# Altium footprint library ADXL314WBCPZ-RL.PcbLib: 3 footprints
Each footprint in its own frame and in the unit in brackets; x right, y up, seen from the top. Pads: shape width x height; smd on the part's side, far side on the other; paste and mask are expansions set on the pad; w line width, h text height; cw(c..) or ccw(c..) is an arc to the next point about the centre after c.
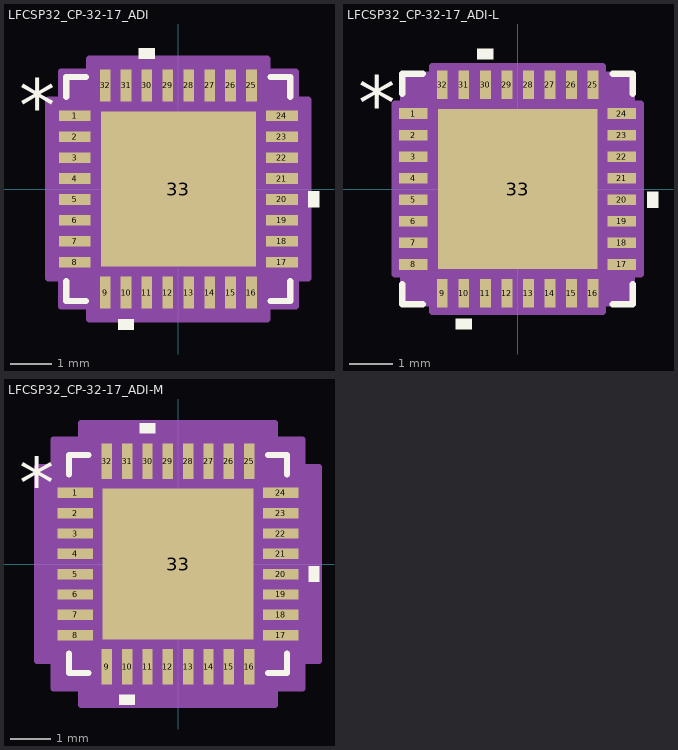
[diagram p0: the footprints below, top view; thin cyan lines are the x and y axes]

## LFCSP32_CP-32-17_ADI [mil]
pads (33):
  rect 30x10 smd paste+0 mask+0: 1(-97.5,68.9) 2(-97.5,49.21) 3(-97.5,29.53) 4(-97.5,9.84) 5(-97.5,-9.84) 6(-97.5,-29.53) 7(-97.5,-49.21) 8(-97.5,-68.9) 17(97.5,-68.9) 18(97.5,-49.21) 19(97.5,-29.53) 20(97.5,-9.84) 21(97.5,9.84) 22(97.5,29.53) 23(97.5,49.21) 24(97.5,68.9)
  rect 10x30 smd paste+0 mask+0: 9(-68.9,-97.5) 10(-49.21,-97.5) 11(-29.53,-97.5) 12(-9.84,-97.5) 13(9.84,-97.5) 14(29.53,-97.5) 15(49.21,-97.5) 16(68.9,-97.5) 25(68.9,97.5) 26(49.21,97.5) 27(29.53,97.5) 28(9.84,97.5) 29(-9.84,97.5) 30(-29.53,97.5) 31(-49.21,97.5) 32(-68.9,97.5)
  rect 146x146 smd paste-73 mask+0: 33(0,0)
Top Overlay:
  region: -41.71,-122.5 -56.71,-122.5 -56.71,-132.5 -41.71,-132.5
  region: 122.5,-2.34 132.5,-2.34 132.5,-17.34 122.5,-17.34
  region: -22.03,122.5 -37.03,122.5 -37.03,132.5 -22.03,132.5
  lines w6: -105.5,-87 -105.5,-105.5 -87,-105.5 ; -105.5,87 -105.5,105.5 -87,105.5 ; 87,-105.5 105.5,-105.5 105.5,-87 ; 87,105.5 105.5,105.5 105.5,87
  text "*" at -150,53.74 h50
  text ".Designator" at -137.5,-25 h50
Top Paste:
  region: -3.94,69.06 -69.06,69.06 -69.06,3.94 -3.94,3.94
  region: -3.94,-3.94 -69.06,-3.94 -69.06,-69.06 -3.94,-69.06
  region: 69.06,69.06 3.94,69.06 3.94,3.94 69.06,3.94
  region: 69.06,-3.94 3.94,-3.94 3.94,-69.06 69.06,-69.06
Mechanical 13:
  lines w1: -100.5,50.5 -50.5,100.5 ; -100.5,-100.5 100.5,-100.5 ; -100.5,-100.5 -100.5,100.5 ; -100.5,-100.5 -100.5,-100.5 ; -100.5,-74.9 -100.5,-62.9 ; -100.5,-74.9 -100.5,-62.9 ; -100.5,-74.9 -100.5,-74.9 ; -100.5,-62.9 -100.5,-62.9 ; -100.5,-55.21 -100.5,-43.21 ; -100.5,-55.21 -100.5,-43.21 ; -100.5,-55.21 -100.5,-55.21 ; -100.5,-43.21 -100.5,-43.21 ; -100.5,-35.53 -100.5,-23.53 ; -100.5,-35.53 -100.5,-23.53 ; -100.5,-35.53 -100.5,-35.53 ; -100.5,-23.53 -100.5,-23.53 ; -100.5,-15.84 -100.5,-3.84 ; -100.5,-15.84 -100.5,-3.84 ; -100.5,-15.84 -100.5,-15.84 ; -100.5,-3.84 -100.5,-3.84 ; -100.5,3.84 -100.5,15.84 ; -100.5,3.84 -100.5,15.84 ; -100.5,3.84 -100.5,3.84 ; -100.5,15.84 -100.5,15.84 ; -100.5,23.53 -100.5,35.53 ; -100.5,23.53 -100.5,35.53 ; -100.5,23.53 -100.5,23.53 ; -100.5,35.53 -100.5,35.53 ; -100.5,43.21 -100.5,55.21 ; -100.5,43.21 -100.5,55.21 ; -100.5,43.21 -100.5,43.21 ; -100.5,55.21 -100.5,55.21 ; -100.5,62.9 -100.5,74.9 ; -100.5,62.9 -100.5,74.9 ; -100.5,62.9 -100.5,62.9 ; -100.5,74.9 -100.5,74.9 ; -100.5,100.5 100.5,100.5 ; -100.5,100.5 -100.5,100.5 ; -74.9,-100.5 -62.9,-100.5 ; -74.9,-100.5 -74.9,-100.5 ; -74.9,-100.5 -62.9,-100.5 ; -74.9,100.5 -62.9,100.5 ; -74.9,100.5 -62.9,100.5 ; -74.9,100.5 -74.9,100.5 ; -62.9,-100.5 -62.9,-100.5 ; -62.9,100.5 -62.9,100.5 ; -55.21,-100.5 -43.21,-100.5 ; -55.21,-100.5 -55.21,-100.5 ; -55.21,-100.5 -43.21,-100.5 ; -55.21,100.5 -43.21,100.5 ; -55.21,100.5 -43.21,100.5 ; -55.21,100.5 -55.21,100.5 ; -43.21,-100.5 -43.21,-100.5 ; -43.21,100.5 -43.21,100.5 ; -35.53,-100.5 -23.53,-100.5 ; -35.53,-100.5 -35.53,-100.5 ; -35.53,-100.5 -23.53,-100.5 ; -35.53,100.5 -23.53,100.5 ; -35.53,100.5 -23.53,100.5 ; -35.53,100.5 -35.53,100.5 ; -23.53,-100.5 -23.53,-100.5 ; -23.53,100.5 -23.53,100.5 ; -15.84,-100.5 -3.84,-100.5 ; -15.84,-100.5 -15.84,-100.5 ; -15.84,-100.5 -3.84,-100.5 ; -15.84,100.5 -3.84,100.5 ; -15.84,100.5 -3.84,100.5 ; -15.84,100.5 -15.84,100.5 ; -3.84,-100.5 -3.84,-100.5 ; -3.84,100.5 -3.84,100.5 ; 3.84,-100.5 15.84,-100.5 ; 3.84,-100.5 3.84,-100.5 ; 3.84,-100.5 15.84,-100.5 ; 3.84,100.5 15.84,100.5 ; 3.84,100.5 15.84,100.5 ; 3.84,100.5 3.84,100.5 ; 15.84,-100.5 15.84,-100.5 ; 15.84,100.5 15.84,100.5 ; 23.53,-100.5 35.53,-100.5 ; 23.53,-100.5 23.53,-100.5 ; 23.53,-100.5 35.53,-100.5 ; 23.53,100.5 35.53,100.5 ; 23.53,100.5 35.53,100.5 ; 23.53,100.5 23.53,100.5 ; 35.53,-100.5 35.53,-100.5 ; 35.53,100.5 35.53,100.5 ; 43.21,-100.5 55.21,-100.5 ; 43.21,-100.5 43.21,-100.5 ; 43.21,-100.5 55.21,-100.5 ; 43.21,100.5 55.21,100.5 ; 43.21,100.5 55.21,100.5 ; 43.21,100.5 43.21,100.5 ; 55.21,-100.5 55.21,-100.5 ; 55.21,100.5 55.21,100.5 ; 62.9,-100.5 74.9,-100.5 ; 62.9,-100.5 62.9,-100.5 ; 62.9,-100.5 74.9,-100.5 ; 62.9,100.5 74.9,100.5 ; 62.9,100.5 74.9,100.5 ; 62.9,100.5 62.9,100.5 ; 74.9,-100.5 74.9,-100.5 ; 74.9,100.5 74.9,100.5 ; 100.5,-100.5 100.5,-100.5 ; 100.5,-100.5 100.5,100.5 ; 100.5,-74.9 100.5,-62.9 ; 100.5,-74.9 100.5,-74.9 ; 100.5,-74.9 100.5,-62.9 ; 100.5,-62.9 100.5,-62.9 ; 100.5,-55.21 100.5,-43.21 ; 100.5,-55.21 100.5,-55.21 ; 100.5,-55.21 100.5,-43.21 ; 100.5,-43.21 100.5,-43.21 ; 100.5,-35.53 100.5,-23.53 ; 100.5,-35.53 100.5,-35.53 ; 100.5,-35.53 100.5,-23.53 ; 100.5,-23.53 100.5,-23.53 ; 100.5,-15.84 100.5,-3.84 ; 100.5,-15.84 100.5,-15.84 ; 100.5,-15.84 100.5,-3.84 ; 100.5,-3.84 100.5,-3.84 ; 100.5,3.84 100.5,15.84 ; 100.5,3.84 100.5,3.84 ; 100.5,3.84 100.5,15.84 ; 100.5,15.84 100.5,15.84 ; 100.5,23.53 100.5,35.53 ; 100.5,23.53 100.5,23.53 ; 100.5,23.53 100.5,35.53 ; 100.5,35.53 100.5,35.53 ; 100.5,43.21 100.5,55.21 ; 100.5,43.21 100.5,43.21 ; 100.5,43.21 100.5,55.21 ; 100.5,55.21 100.5,55.21 ; 100.5,62.9 100.5,74.9 ; 100.5,62.9 100.5,62.9 ; 100.5,62.9 100.5,74.9 ; 100.5,74.9 100.5,74.9 ; 100.5,100.5 100.5,100.5
  text ".Designator" at -137.5,-25 h50
  text "*" at -95,53.74 h50
Mechanical 15:
  region: -83.9,-110.5 -110.5,-110.5 -110.5,-83.9 -122.5,-83.9 -122.5,83.9 -110.5,83.9 -110.5,110.5 -83.9,110.5 -83.9,122.5 83.9,122.5 83.9,110.5 110.5,110.5 110.5,83.9 122.5,83.9 122.5,-83.9 110.5,-83.9 110.5,-110.5 83.9,-110.5 83.9,-122.5 -83.9,-122.5
  lines w6: -122.5,-83.9 -110.5,-83.9 -110.5,-110.5 -83.9,-110.5 -83.9,-122.5 83.9,-122.5 83.9,-110.5 110.5,-110.5 110.5,-83.9 122.5,-83.9 122.5,83.9 110.5,83.9 110.5,110.5 83.9,110.5 83.9,122.5 -83.9,122.5 -83.9,110.5 -110.5,110.5 -110.5,83.9 -122.5,83.9 -122.5,-83.9
3D body "LFCSP32_CP-32-17_ADI.step": height 61.1, standoff 0, extent -100.51,-100.51 100.51,100.51

## LFCSP32_CP-32-17_ADI-L [mil]
pads (33):
  rect 26x10 smd paste+0 mask+0: 1(-95.5,68.9) 2(-95.5,49.21) 3(-95.5,29.53) 4(-95.5,9.84) 5(-95.5,-9.84) 6(-95.5,-29.53) 7(-95.5,-49.21) 8(-95.5,-68.9) 17(95.5,-68.9) 18(95.5,-49.21) 19(95.5,-29.53) 20(95.5,-9.84) 21(95.5,9.84) 22(95.5,29.53) 23(95.5,49.21) 24(95.5,68.9)
  rect 10x26 smd paste+0 mask+0: 9(-68.9,-95.5) 10(-49.21,-95.5) 11(-29.53,-95.5) 12(-9.84,-95.5) 13(9.84,-95.5) 14(29.53,-95.5) 15(49.21,-95.5) 16(68.9,-95.5) 25(68.9,95.5) 26(49.21,95.5) 27(29.53,95.5) 28(9.84,95.5) 29(-9.84,95.5) 30(-29.53,95.5) 31(-49.21,95.5) 32(-68.9,95.5)
  rect 146x146 smd paste-73 mask+0: 33(0,0)
Top Overlay:
  region: -41.71,-118.5 -56.71,-118.5 -56.71,-128.5 -41.71,-128.5
  region: 118.5,-2.34 128.5,-2.34 128.5,-17.34 118.5,-17.34
  region: -22.03,118.5 -37.03,118.5 -37.03,128.5 -22.03,128.5
  lines w6: -105.5,-87 -105.5,-105.5 -87,-105.5 ; -105.5,87 -105.5,105.5 -87,105.5 ; 87,-105.5 105.5,-105.5 105.5,-87 ; 87,105.5 105.5,105.5 105.5,87
  text "*" at -146,53.74 h50
  text ".Designator" at -137.5,-25 h50
Top Paste:
  region: -3.94,69.06 -69.06,69.06 -69.06,3.94 -3.94,3.94
  region: -3.94,-3.94 -69.06,-3.94 -69.06,-69.06 -3.94,-69.06
  region: 69.06,69.06 3.94,69.06 3.94,3.94 69.06,3.94
  region: 69.06,-3.94 3.94,-3.94 3.94,-69.06 69.06,-69.06
Mechanical 13:
  lines w1: -100.5,50.5 -50.5,100.5 ; -100.5,-100.5 100.5,-100.5 ; -100.5,-100.5 -100.5,100.5 ; -100.5,-100.5 -100.5,-100.5 ; -100.5,-74.9 -100.5,-62.9 ; -100.5,-74.9 -100.5,-62.9 ; -100.5,-74.9 -100.5,-74.9 ; -100.5,-62.9 -100.5,-62.9 ; -100.5,-55.21 -100.5,-43.21 ; -100.5,-55.21 -100.5,-43.21 ; -100.5,-55.21 -100.5,-55.21 ; -100.5,-43.21 -100.5,-43.21 ; -100.5,-35.53 -100.5,-23.53 ; -100.5,-35.53 -100.5,-23.53 ; -100.5,-35.53 -100.5,-35.53 ; -100.5,-23.53 -100.5,-23.53 ; -100.5,-15.84 -100.5,-3.84 ; -100.5,-15.84 -100.5,-3.84 ; -100.5,-15.84 -100.5,-15.84 ; -100.5,-3.84 -100.5,-3.84 ; -100.5,3.84 -100.5,15.84 ; -100.5,3.84 -100.5,15.84 ; -100.5,3.84 -100.5,3.84 ; -100.5,15.84 -100.5,15.84 ; -100.5,23.53 -100.5,35.53 ; -100.5,23.53 -100.5,35.53 ; -100.5,23.53 -100.5,23.53 ; -100.5,35.53 -100.5,35.53 ; -100.5,43.21 -100.5,55.21 ; -100.5,43.21 -100.5,55.21 ; -100.5,43.21 -100.5,43.21 ; -100.5,55.21 -100.5,55.21 ; -100.5,62.9 -100.5,74.9 ; -100.5,62.9 -100.5,74.9 ; -100.5,62.9 -100.5,62.9 ; -100.5,74.9 -100.5,74.9 ; -100.5,100.5 100.5,100.5 ; -100.5,100.5 -100.5,100.5 ; -74.9,-100.5 -62.9,-100.5 ; -74.9,-100.5 -74.9,-100.5 ; -74.9,-100.5 -62.9,-100.5 ; -74.9,100.5 -62.9,100.5 ; -74.9,100.5 -62.9,100.5 ; -74.9,100.5 -74.9,100.5 ; -62.9,-100.5 -62.9,-100.5 ; -62.9,100.5 -62.9,100.5 ; -55.21,-100.5 -43.21,-100.5 ; -55.21,-100.5 -55.21,-100.5 ; -55.21,-100.5 -43.21,-100.5 ; -55.21,100.5 -43.21,100.5 ; -55.21,100.5 -43.21,100.5 ; -55.21,100.5 -55.21,100.5 ; -43.21,-100.5 -43.21,-100.5 ; -43.21,100.5 -43.21,100.5 ; -35.53,-100.5 -23.53,-100.5 ; -35.53,-100.5 -35.53,-100.5 ; -35.53,-100.5 -23.53,-100.5 ; -35.53,100.5 -23.53,100.5 ; -35.53,100.5 -23.53,100.5 ; -35.53,100.5 -35.53,100.5 ; -23.53,-100.5 -23.53,-100.5 ; -23.53,100.5 -23.53,100.5 ; -15.84,-100.5 -3.84,-100.5 ; -15.84,-100.5 -15.84,-100.5 ; -15.84,-100.5 -3.84,-100.5 ; -15.84,100.5 -3.84,100.5 ; -15.84,100.5 -3.84,100.5 ; -15.84,100.5 -15.84,100.5 ; -3.84,-100.5 -3.84,-100.5 ; -3.84,100.5 -3.84,100.5 ; 3.84,-100.5 15.84,-100.5 ; 3.84,-100.5 3.84,-100.5 ; 3.84,-100.5 15.84,-100.5 ; 3.84,100.5 15.84,100.5 ; 3.84,100.5 15.84,100.5 ; 3.84,100.5 3.84,100.5 ; 15.84,-100.5 15.84,-100.5 ; 15.84,100.5 15.84,100.5 ; 23.53,-100.5 35.53,-100.5 ; 23.53,-100.5 23.53,-100.5 ; 23.53,-100.5 35.53,-100.5 ; 23.53,100.5 35.53,100.5 ; 23.53,100.5 35.53,100.5 ; 23.53,100.5 23.53,100.5 ; 35.53,-100.5 35.53,-100.5 ; 35.53,100.5 35.53,100.5 ; 43.21,-100.5 55.21,-100.5 ; 43.21,-100.5 43.21,-100.5 ; 43.21,-100.5 55.21,-100.5 ; 43.21,100.5 55.21,100.5 ; 43.21,100.5 55.21,100.5 ; 43.21,100.5 43.21,100.5 ; 55.21,-100.5 55.21,-100.5 ; 55.21,100.5 55.21,100.5 ; 62.9,-100.5 74.9,-100.5 ; 62.9,-100.5 62.9,-100.5 ; 62.9,-100.5 74.9,-100.5 ; 62.9,100.5 74.9,100.5 ; 62.9,100.5 74.9,100.5 ; 62.9,100.5 62.9,100.5 ; 74.9,-100.5 74.9,-100.5 ; 74.9,100.5 74.9,100.5 ; 100.5,-100.5 100.5,-100.5 ; 100.5,-100.5 100.5,100.5 ; 100.5,-74.9 100.5,-62.9 ; 100.5,-74.9 100.5,-74.9 ; 100.5,-74.9 100.5,-62.9 ; 100.5,-62.9 100.5,-62.9 ; 100.5,-55.21 100.5,-43.21 ; 100.5,-55.21 100.5,-55.21 ; 100.5,-55.21 100.5,-43.21 ; 100.5,-43.21 100.5,-43.21 ; 100.5,-35.53 100.5,-23.53 ; 100.5,-35.53 100.5,-35.53 ; 100.5,-35.53 100.5,-23.53 ; 100.5,-23.53 100.5,-23.53 ; 100.5,-15.84 100.5,-3.84 ; 100.5,-15.84 100.5,-15.84 ; 100.5,-15.84 100.5,-3.84 ; 100.5,-3.84 100.5,-3.84 ; 100.5,3.84 100.5,15.84 ; 100.5,3.84 100.5,3.84 ; 100.5,3.84 100.5,15.84 ; 100.5,15.84 100.5,15.84 ; 100.5,23.53 100.5,35.53 ; 100.5,23.53 100.5,23.53 ; 100.5,23.53 100.5,35.53 ; 100.5,35.53 100.5,35.53 ; 100.5,43.21 100.5,55.21 ; 100.5,43.21 100.5,43.21 ; 100.5,43.21 100.5,55.21 ; 100.5,55.21 100.5,55.21 ; 100.5,62.9 100.5,74.9 ; 100.5,62.9 100.5,62.9 ; 100.5,62.9 100.5,74.9 ; 100.5,74.9 100.5,74.9 ; 100.5,100.5 100.5,100.5
  text ".Designator" at -137.5,-25 h50
  text "*" at -95,53.74 h50
Mechanical 15:
  region: -77.9,-104.5 -104.5,-104.5 -104.5,-77.9 -112.5,-77.9 -112.5,77.9 -104.5,77.9 -104.5,104.5 -77.9,104.5 -77.9,112.5 77.9,112.5 77.9,104.5 104.5,104.5 104.5,77.9 112.5,77.9 112.5,-77.9 104.5,-77.9 104.5,-104.5 77.9,-104.5 77.9,-112.5 -77.9,-112.5
  lines w6: -112.5,-77.9 -104.5,-77.9 -104.5,-104.5 -77.9,-104.5 -77.9,-112.5 77.9,-112.5 77.9,-104.5 104.5,-104.5 104.5,-77.9 112.5,-77.9 112.5,77.9 104.5,77.9 104.5,104.5 77.9,104.5 77.9,112.5 -77.9,112.5 -77.9,104.5 -104.5,104.5 -104.5,77.9 -112.5,77.9 -112.5,-77.9
3D body "LFCSP32_CP-32-17_ADI.step": height 61.1, standoff 0, extent -100.51,-100.51 100.51,100.51

## LFCSP32_CP-32-17_ADI-M [mil]
pads (33):
  rect 34x10 smd paste+0 mask+0: 1(-99.5,68.9) 2(-99.5,49.21) 3(-99.5,29.53) 4(-99.5,9.84) 5(-99.5,-9.84) 6(-99.5,-29.53) 7(-99.5,-49.21) 8(-99.5,-68.9) 17(99.5,-68.9) 18(99.5,-49.21) 19(99.5,-29.53) 20(99.5,-9.84) 21(99.5,9.84) 22(99.5,29.53) 23(99.5,49.21) 24(99.5,68.9)
  rect 10x34 smd paste+0 mask+0: 9(-68.9,-99.5) 10(-49.21,-99.5) 11(-29.53,-99.5) 12(-9.84,-99.5) 13(9.84,-99.5) 14(29.53,-99.5) 15(49.21,-99.5) 16(68.9,-99.5) 25(68.9,99.5) 26(49.21,99.5) 27(29.53,99.5) 28(9.84,99.5) 29(-9.84,99.5) 30(-29.53,99.5) 31(-49.21,99.5) 32(-68.9,99.5)
  rect 146x146 smd paste-73 mask+0: 33(0,0)
Top Overlay:
  region: -41.71,-126.5 -56.71,-126.5 -56.71,-136.5 -41.71,-136.5
  region: 126.5,-2.34 136.5,-2.34 136.5,-17.34 126.5,-17.34
  region: -22.03,126.5 -37.03,126.5 -37.03,136.5 -22.03,136.5
  lines w6: -105.5,-87 -105.5,-105.5 -87,-105.5 ; -105.5,87 -105.5,105.5 -87,105.5 ; 87,-105.5 105.5,-105.5 105.5,-87 ; 87,105.5 105.5,105.5 105.5,87
  text "*" at -154,53.74 h50
  text ".Designator" at -137.5,-25 h50
Top Paste:
  region: -3.94,69.06 -69.06,69.06 -69.06,3.94 -3.94,3.94
  region: -3.94,-3.94 -69.06,-3.94 -69.06,-69.06 -3.94,-69.06
  region: 69.06,69.06 3.94,69.06 3.94,3.94 69.06,3.94
  region: 69.06,-3.94 3.94,-3.94 3.94,-69.06 69.06,-69.06
Mechanical 13:
  lines w1: -100.5,50.5 -50.5,100.5 ; -100.5,-100.5 100.5,-100.5 ; -100.5,-100.5 -100.5,100.5 ; -100.5,-100.5 -100.5,-100.5 ; -100.5,-74.9 -100.5,-62.9 ; -100.5,-74.9 -100.5,-62.9 ; -100.5,-74.9 -100.5,-74.9 ; -100.5,-62.9 -100.5,-62.9 ; -100.5,-55.21 -100.5,-43.21 ; -100.5,-55.21 -100.5,-43.21 ; -100.5,-55.21 -100.5,-55.21 ; -100.5,-43.21 -100.5,-43.21 ; -100.5,-35.53 -100.5,-23.53 ; -100.5,-35.53 -100.5,-23.53 ; -100.5,-35.53 -100.5,-35.53 ; -100.5,-23.53 -100.5,-23.53 ; -100.5,-15.84 -100.5,-3.84 ; -100.5,-15.84 -100.5,-3.84 ; -100.5,-15.84 -100.5,-15.84 ; -100.5,-3.84 -100.5,-3.84 ; -100.5,3.84 -100.5,15.84 ; -100.5,3.84 -100.5,15.84 ; -100.5,3.84 -100.5,3.84 ; -100.5,15.84 -100.5,15.84 ; -100.5,23.53 -100.5,35.53 ; -100.5,23.53 -100.5,35.53 ; -100.5,23.53 -100.5,23.53 ; -100.5,35.53 -100.5,35.53 ; -100.5,43.21 -100.5,55.21 ; -100.5,43.21 -100.5,55.21 ; -100.5,43.21 -100.5,43.21 ; -100.5,55.21 -100.5,55.21 ; -100.5,62.9 -100.5,74.9 ; -100.5,62.9 -100.5,74.9 ; -100.5,62.9 -100.5,62.9 ; -100.5,74.9 -100.5,74.9 ; -100.5,100.5 100.5,100.5 ; -100.5,100.5 -100.5,100.5 ; -74.9,-100.5 -62.9,-100.5 ; -74.9,-100.5 -74.9,-100.5 ; -74.9,-100.5 -62.9,-100.5 ; -74.9,100.5 -62.9,100.5 ; -74.9,100.5 -62.9,100.5 ; -74.9,100.5 -74.9,100.5 ; -62.9,-100.5 -62.9,-100.5 ; -62.9,100.5 -62.9,100.5 ; -55.21,-100.5 -43.21,-100.5 ; -55.21,-100.5 -55.21,-100.5 ; -55.21,-100.5 -43.21,-100.5 ; -55.21,100.5 -43.21,100.5 ; -55.21,100.5 -43.21,100.5 ; -55.21,100.5 -55.21,100.5 ; -43.21,-100.5 -43.21,-100.5 ; -43.21,100.5 -43.21,100.5 ; -35.53,-100.5 -23.53,-100.5 ; -35.53,-100.5 -35.53,-100.5 ; -35.53,-100.5 -23.53,-100.5 ; -35.53,100.5 -23.53,100.5 ; -35.53,100.5 -23.53,100.5 ; -35.53,100.5 -35.53,100.5 ; -23.53,-100.5 -23.53,-100.5 ; -23.53,100.5 -23.53,100.5 ; -15.84,-100.5 -3.84,-100.5 ; -15.84,-100.5 -15.84,-100.5 ; -15.84,-100.5 -3.84,-100.5 ; -15.84,100.5 -3.84,100.5 ; -15.84,100.5 -3.84,100.5 ; -15.84,100.5 -15.84,100.5 ; -3.84,-100.5 -3.84,-100.5 ; -3.84,100.5 -3.84,100.5 ; 3.84,-100.5 15.84,-100.5 ; 3.84,-100.5 3.84,-100.5 ; 3.84,-100.5 15.84,-100.5 ; 3.84,100.5 15.84,100.5 ; 3.84,100.5 15.84,100.5 ; 3.84,100.5 3.84,100.5 ; 15.84,-100.5 15.84,-100.5 ; 15.84,100.5 15.84,100.5 ; 23.53,-100.5 35.53,-100.5 ; 23.53,-100.5 23.53,-100.5 ; 23.53,-100.5 35.53,-100.5 ; 23.53,100.5 35.53,100.5 ; 23.53,100.5 35.53,100.5 ; 23.53,100.5 23.53,100.5 ; 35.53,-100.5 35.53,-100.5 ; 35.53,100.5 35.53,100.5 ; 43.21,-100.5 55.21,-100.5 ; 43.21,-100.5 43.21,-100.5 ; 43.21,-100.5 55.21,-100.5 ; 43.21,100.5 55.21,100.5 ; 43.21,100.5 55.21,100.5 ; 43.21,100.5 43.21,100.5 ; 55.21,-100.5 55.21,-100.5 ; 55.21,100.5 55.21,100.5 ; 62.9,-100.5 74.9,-100.5 ; 62.9,-100.5 62.9,-100.5 ; 62.9,-100.5 74.9,-100.5 ; 62.9,100.5 74.9,100.5 ; 62.9,100.5 74.9,100.5 ; 62.9,100.5 62.9,100.5 ; 74.9,-100.5 74.9,-100.5 ; 74.9,100.5 74.9,100.5 ; 100.5,-100.5 100.5,-100.5 ; 100.5,-100.5 100.5,100.5 ; 100.5,-74.9 100.5,-62.9 ; 100.5,-74.9 100.5,-74.9 ; 100.5,-74.9 100.5,-62.9 ; 100.5,-62.9 100.5,-62.9 ; 100.5,-55.21 100.5,-43.21 ; 100.5,-55.21 100.5,-55.21 ; 100.5,-55.21 100.5,-43.21 ; 100.5,-43.21 100.5,-43.21 ; 100.5,-35.53 100.5,-23.53 ; 100.5,-35.53 100.5,-35.53 ; 100.5,-35.53 100.5,-23.53 ; 100.5,-23.53 100.5,-23.53 ; 100.5,-15.84 100.5,-3.84 ; 100.5,-15.84 100.5,-15.84 ; 100.5,-15.84 100.5,-3.84 ; 100.5,-3.84 100.5,-3.84 ; 100.5,3.84 100.5,15.84 ; 100.5,3.84 100.5,3.84 ; 100.5,3.84 100.5,15.84 ; 100.5,15.84 100.5,15.84 ; 100.5,23.53 100.5,35.53 ; 100.5,23.53 100.5,23.53 ; 100.5,23.53 100.5,35.53 ; 100.5,35.53 100.5,35.53 ; 100.5,43.21 100.5,55.21 ; 100.5,43.21 100.5,43.21 ; 100.5,43.21 100.5,55.21 ; 100.5,55.21 100.5,55.21 ; 100.5,62.9 100.5,74.9 ; 100.5,62.9 100.5,62.9 ; 100.5,62.9 100.5,74.9 ; 100.5,74.9 100.5,74.9 ; 100.5,100.5 100.5,100.5
  text ".Designator" at -137.5,-25 h50
  text "*" at -95,53.74 h50
Mechanical 15:
  region: -93.9,-120.5 -120.5,-120.5 -120.5,-93.9 -136.5,-93.9 -136.5,93.9 -120.5,93.9 -120.5,120.5 -93.9,120.5 -93.9,136.5 93.9,136.5 93.9,120.5 120.5,120.5 120.5,93.9 136.5,93.9 136.5,-93.9 120.5,-93.9 120.5,-120.5 93.9,-120.5 93.9,-136.5 -93.9,-136.5
  lines w6: -136.5,-93.9 -120.5,-93.9 -120.5,-120.5 -93.9,-120.5 -93.9,-136.5 93.9,-136.5 93.9,-120.5 120.5,-120.5 120.5,-93.9 136.5,-93.9 136.5,93.9 120.5,93.9 120.5,120.5 93.9,120.5 93.9,136.5 -93.9,136.5 -93.9,120.5 -120.5,120.5 -120.5,93.9 -136.5,93.9 -136.5,-93.9
3D body "LFCSP32_CP-32-17_ADI.step": height 61.1, standoff 0, extent -100.51,-100.51 100.51,100.51